# Altium schematic symbol library biblioteca_placa_micro.SchLib: 12 symbols
Pins are listed as number, name and electrical type; pins without a type are passive.

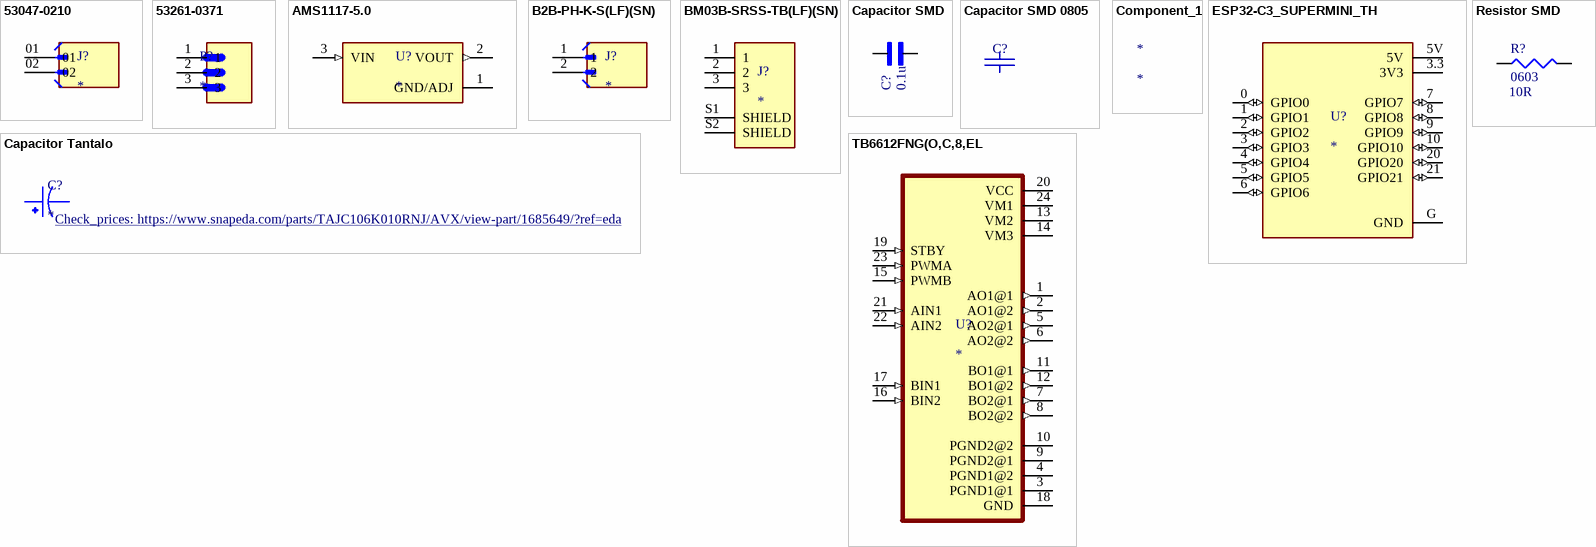
[diagram p0: symbols 53047-0210 to TB6612FNG(O,C,8,EL]

## 53047-0210
designator J?
Picoblade Connector, 2 Circuit Single Row, Vertical Throughole PCB; MF: Molex; MP: 0530470210; SnapEDA_Link: https://www.snapeda.com/parts/0530470210/Molex/view-part/?ref=snap; Package: None; Value: *; Check_prices: https://www.snapeda.com/parts/0530470210/Molex/view-part/?ref=eda
footprint MOLEX_53047-0210
pins: 01, 02

## 53261-0371
designator P?
Connector Header Surface Mount, Right Angle 3 position 0.049 (1.25mm); MP: 53261-0371; MF: Molex; Price: None; Availability: In Stock; Package: None; Value: *; SnapEDA_Link: https://www.snapeda.com/parts/53261-0371/Molex/view-part/?ref=snap; Purchase-URL: https://pricing.snapeda.com/search/part/53261-0371/?ref=eda; Check_prices: https://www.snapeda.com/parts/53261-0371/Molex/view-part/?ref=eda
footprint MOLEX_53261-0371
pins: 1, 2, 3

## AMS1117-5.0
designator U?
1A LOW DROPOUT VOLTAGE REGULATOR; MP: AMS1117-5.0; MF: ams; Package: SOT-223 Seeed Technology; SnapEDA_Link: https://www.snapeda.com/parts/AMS1117-5.0/ams/view-part/?ref=snap; Check_prices: https://www.snapeda.com/parts/AMS1117-5.0/ams/view-part/?ref=eda; Availability: Not in stock; Value: *; Price: None
footprint SOT229P700X180-4N
pins: 1 GND/ADJ (power), 2 VOUT (out), 3 VIN (in)

## B2B-PH-K-S(LF)(SN)
designator J?
Connector Header Through Hole 2 position 0.079 (2.00mm); MF: JST; MP: B2B-PH-K-S (LF)(SN); SnapEDA_Link: https://www.snapeda.com/parts/B2B-PH-K-S%20(LF)(SN)/JST/view-part/?ref=snap; Package: None; Value: *; Check_prices: https://www.snapeda.com/parts/B2B-PH-K-S%20(LF)(SN)/JST/view-part/?ref=eda
footprint JST_B2B-PH-K-S(LF)(SN)
pins: 1, 2

## BM03B-SRSS-TB(LF)(SN)
designator J?
Connector Header Surface Mount 3 position 0.039 (1.00mm); MF: JST Sales; MP: BM03B-SRSS-TB(LF)(SN); SnapEDA_Link: https://www.snapeda.com/parts/BM03B-SRSS-TB(LF)(SN)/JST/view-part/?ref=snap; Package: None; Value: *; Check_prices: https://www.snapeda.com/parts/BM03B-SRSS-TB(LF)(SN)/JST/view-part/?ref=eda
footprint JST_BM03B-SRSS-TB(LF)(SN)
pins: 1, 2, 3, S1 SHIELD, S2 SHIELD

## Capacitor SMD
designator C?, comment 0.1u
0805 390 pF 50 V Â±5% Tolerance C0G SMT Multilayer Ceramic Capacitor; MF: Murata Electronics; MP: GRM2165C1H391JA01D; Price: 0.07 USD; SnapEDA_Link: https://www.snapeda.com/parts/GRM2165C1H391JA01D/Murata%2520Electronics%2520North%2520America/view-part/?ref=snap; Availability: Good; Package: 0805 Murata; Value: *
footprint CAPC0402
footprint CAPC0603
footprint CAPC0805
footprint CAPC1206
footprint CAPC2220
pins: 1, 2

## Capacitor SMD 0805
designator C?  (value not drawn)
Capacitor
footprint SMD Capacitor
footprint CAPC0603
footprint CAPC2220
footprint CAPC0805
footprint CAPC0402
footprint CAPC1206
pins: 1, 2

## Capacitor Tantalo
designator C?
10µF Molded Tantalum Capacitors 10V 2.5Ohm; MP: TAJC106K010RNJ; MF: AVX; Package: 2312 AVX; Purchase-URL: https://pricing.snapeda.com/search/part/TAJC106K010RNJ/?ref=eda; Price: None; Availability: Warning; SnapEDA_Link: https://www.snapeda.com/parts/TAJC106K010RNJ/AVX/view-part/1685649/?ref=snap; Value: *; Check_prices: https://www.snapeda.com/parts/TAJC106K010RNJ/AVX/view-part/1685649/?ref=eda
footprint Capacitor Tântalo Case A - 3216
footprint Capacitor Tântalo Case C - 6032
footprint Capacitor Tântalo Case D - 7343
footprint Capacitor Tântalo Case B - 3528
pins: 1, 2

## Component_1
designator *

## ESP32-C3_SUPERMINI_TH
designator U?
Super tiny ESP32-C3 board; MF: Espressif Systems; MP: ESP32-C3 SuperMini_TH; SnapEDA_Link: https://www.snapeda.com/parts/ESP32-C3%20SuperMini_TH/Espressif+Systems/view-part/?ref=snap; Package: Package; Value: *; Check_prices: https://www.snapeda.com/parts/ESP32-C3%20SuperMini_TH/Espressif+Systems/view-part/?ref=eda
footprint MODULE_ESP32-C3_SUPERMINI
pins: 0 GPIO0 (io), 1 GPIO1 (io), 2 GPIO2 (io), 3 GPIO3 (io), 3.3 3V3 (power), 4 GPIO4 (io), 5 GPIO5 (io), 5V (power), 6 GPIO6 (io), 7 GPIO7 (io), 8 GPIO8 (io), 9 GPIO9 (io), 10 GPIO10 (io), 20 GPIO20 (io), 21 GPIO21 (io), G GND (power)

## Resistor SMD
designator R?  value 10R  Size: 0603  (hidden comment: *)
Resistor SMD com os tamanhos 0603, 0805, 1206 e 1210
footprint Resistor SMD 0603
footprint Resistor SMD 0805
footprint Resistor SMD 1206
footprint Resistor SMD 1210
pins: 1, 2

## TB6612FNG(O,C,8,EL
designator U?
DC Motor Driver 3V 24-Pin SSOP T/R; MF: Toshiba; MP: TB6612FNG(O,C,8,EL; Check_prices: https://www.snapeda.com/parts/TB6612FNG(O,C,8,EL/Toshiba/view-part/?ref=eda; Package: SSOP-24 Toshiba; Availability: Not in stock; Value: *; SnapEDA_Link: https://www.snapeda.com/parts/TB6612FNG(O,C,8,EL/Toshiba/view-part/?ref=snap; Price: None
footprint SOP65P760X160-24N
pins: 1 AO1@1 (out), 2 AO1@2 (out), 3 PGND1@1, 4 PGND1@2, 5 AO2@1 (out), 6 AO2@2 (out), 7 BO2@1 (out), 8 BO2@2 (out), 9 PGND2@1, 10 PGND2@2, 11 BO1@1 (out), 12 BO1@2 (out), 13 VM2 (power), 14 VM3 (power), 15 PWMB (in), 16 BIN2 (in), 17 BIN1 (in), 18 GND, 19 STBY (in), 20 VCC (power), 21 AIN1 (in), 22 AIN2 (in), 23 PWMA (in), 24 VM1 (power)